# EAGLE library part MAX627CPA (library max627)
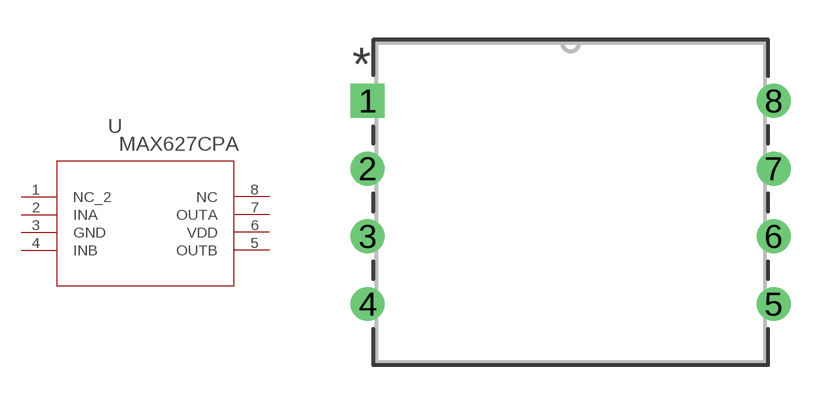
[diagram p0: symbol with the pads of 21-0044B_8; footprint 21-0044B_8]

Designator prefix U

## MAX627CPA (MANUFACTURER_PART_NUMBER: max627cpa; VENDOR: Maxim Integrated Products)  [21-0044B_8]
1  NC_2  nc
2  INA  in
3  GND  pwr
4  INB  in
5  OUTB  out
6  VDD  pwr
7  OUTA  out
8  NC  nc

## Footprint 21-0044B_8 (pad centres in mm)
drill 0.762 pad 1.27 square: 1 -15.24,7.62
drill 0.762 pad 1.27: 2 -15.24,5.08; 3 -15.24,2.54; 4 -15.24,0; 5 0,0; 6 0,2.54; 7 0,5.08; 8 0,7.62